# Altium footprint library Fuses.PcbLib: 2 footprints
Each footprint in its own frame and in the unit in brackets; x right, y up, seen from the top. Pads: shape width x height; smd on the part's side, far side on the other; paste and mask are expansions set on the pad; w line width, h text height; cw(c..) or ccw(c..) is an arc to the next point about the centre after c.
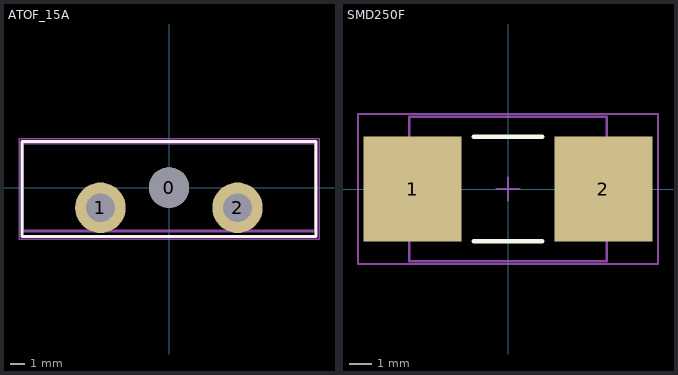
[diagram p0: the footprints below, top view; thin cyan lines are the x and y axes]

## ATOF_15A [mm]
pads (3):
  round 2.8 hole 2.8 mask+0: 0(0,0)
  round 3.5 hole 2: 1(-4.75,-1.4) 2(4.75,-1.4)
Top Overlay:
  lines w0.2: -10.2,-3.4 -10.2,3.2 10.2,3.2 10.2,-3.4 -10.2,-3.4
Mechanical 1:
  lines w0.1: -10.1,-2.975 -10.1,3.125 10.1,3.125 10.1,-2.975 -10.1,-2.975
Mechanical 13:
  lines w0.1: -10.1,-3.05 -10.1,3.05 10.1,3.05 10.1,-3.05 -10.1,-3.05
Mechanical 15:
  lines w0.1: -0.5,0 0.5,0 ; 0,-0.5 0,0.5 ; -10.4,-3.6 10.4,-3.6 10.4,3.4 -10.4,3.4 -10.4,-3.6
3D body "FUSE_15A.STEP": height 26.05, standoff -4.85, extent -10.1,-3.05 10.1,3.05

## SMD250F [mm]
pads (2):
  rect 4.3x4.6 smd: 1(-4.2,0) 2(4.2,0)
Top Overlay:
  lines w0.2: -1.5,-2.3 1.5,-2.3 ; -1.5,2.3 1.5,2.3
Mechanical 1:
  lines w0.1: -4.35,-3.175 4.35,-3.175 4.35,3.175 -4.35,3.175 -4.35,-3.175
Mechanical 15:
  lines w0.1: -0.5,0 0.5,0 ; 0,-0.5 0,0.5 ; -6.6,-3.3 6.6,-3.3 6.6,3.3 -6.6,3.3 -6.6,-3.3
3D body "SMD250F.step": height 3, standoff 0, extent -4.35,-3.175 4.35,3.175